# EAGLE library part F-2X09- (library con-headers-jp)
FEMALE HEADER
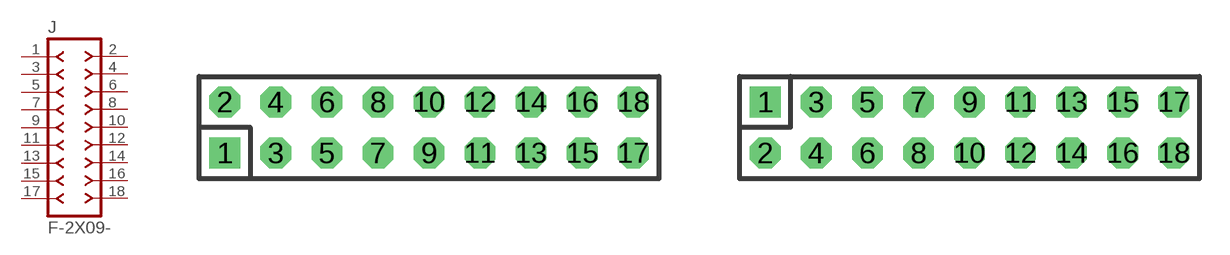
[diagram p38: symbol with the pads of DIL-100-2X09; footprints DIL-100-2X09, DIL-100-2X09_M]

Designator prefix J

## F-2X09-DIL-100  [DIL-100-2X09]
1  1  pas
2  2  pas
3  3  pas
4  4  pas
5  5  pas
6  6  pas
7  7  pas
8  8  pas
9  9  pas
10  10  pas
11  11  pas
12  12  pas
13  13  pas
14  14  pas
15  15  pas
16  16  pas
17  17  pas
18  18  pas

## F-2X09-DIL-100_M  [DIL-100-2X09_M]
Pads as for DIL-100-2X09

## F-2X09-DIL-2MM  [DIL-2MM-2X09]
Pads as for DIL-100-2X09

## F-2X09-DIL-2MM_M  [DIL-2MM-2X09_M]
Pads as for DIL-100-2X09

## F-2X09-71991  [71991-18]
Pads as for DIL-100-2X09

## F-2X09-79107  [79107-18]
Pads as for DIL-100-2X09

## F-2X09-79107_M  [79107-18_M]
Pads as for DIL-100-2X09

## Footprint DIL-100-2X09 (pad centres in mm)
PIN HEADER - 0.1"
drill 1.016 square: 1 -10.16,-1.27
drill 1.016 octagon: 2 -10.16,1.27; 3 -7.62,-1.27; 4 -7.62,1.27; 5 -5.08,-1.27; 6 -5.08,1.27; 7 -2.54,-1.27; 8 -2.54,1.27; 9 0,-1.27; 10 0,1.27; 11 2.54,-1.27; 12 2.54,1.27; 13 5.08,-1.27; 14 5.08,1.27; 15 7.62,-1.27; 16 7.62,1.27; 17 10.16,-1.27; 18 10.16,1.27

## Footprint DIL-100-2X09_M (pad centres in mm)
PIN HEADER - MIRRORED 0.1"
drill 1.016 square: 1 -10.16,1.27
drill 1.016 octagon: 2 -10.16,-1.27; 3 -7.62,1.27; 4 -7.62,-1.27; 5 -5.08,1.27; 6 -5.08,-1.27; 7 -2.54,1.27; 8 -2.54,-1.27; 9 0,1.27; 10 0,-1.27; 11 2.54,1.27; 12 2.54,-1.27; 13 5.08,1.27; 14 5.08,-1.27; 15 7.62,1.27; 16 7.62,-1.27; 17 10.16,1.27; 18 10.16,-1.27

## Footprint DIL-2MM-2X09 (pad centres in mm)
PIN HEADER - 2MM"
drill 0.711 square: 1 -8,-1
drill 0.711 round: 2 -8,1; 3 -6,-1; 4 -6,1; 5 -4,-1; 6 -4,1; 7 -2,-1; 8 -2,1; 9 0,-1; 10 0,1; 11 2,-1; 12 2,1; 13 4,-1; 14 4,1; 15 6,-1; 16 6,1; 17 8,-1; 18 8,1

## Footprint DIL-2MM-2X09_M (pad centres in mm)
PIN HEADER - MIRRORED 2MM
drill 0.711 square: 1 -8,1
drill 0.711 round: 2 -8,-1; 3 -6,1; 4 -6,-1; 5 -4,1; 6 -4,-1; 7 -2,1; 8 -2,-1; 9 0,1; 10 0,-1; 11 2,1; 12 2,-1; 13 4,1; 14 4,-1; 15 6,1; 16 6,-1; 17 8,1; 18 8,-1

## Footprint 71991-18 (pad centres in mm)
FCI - Dual Entry Female Pass Through, 0.1" spacing
drill 0.813 square: 1 -10.16,-3.81
drill 0.813 octagon: 2 -10.16,3.81; 3 -7.62,-3.81; 4 -7.62,3.81; 5 -5.08,-3.81; 6 -5.08,3.81; 7 -2.54,-3.81; 8 -2.54,3.81; 9 0,-3.81; 10 0,3.81; 11 2.54,-3.81; 12 2.54,3.81; 13 5.08,-3.81; 14 5.08,3.81; 15 7.62,-3.81; 16 7.62,3.81; 17 10.16,-3.81; 18 10.16,3.81
hole 1.422 at -10.16,-1.27
hole 1.422 at -10.16,1.27
hole 1.422 at -7.62,1.27
hole 1.422 at -7.62,-1.27
hole 1.422 at -5.08,1.27
hole 1.422 at -5.08,-1.27
hole 1.422 at -2.54,1.27
hole 1.422 at -2.54,-1.27
hole 1.422 at 0,1.27
hole 1.422 at 0,-1.27
hole 1.422 at 2.54,1.27
hole 1.422 at 2.54,-1.27
hole 1.422 at 5.08,1.27
hole 1.422 at 5.08,-1.27
hole 1.422 at 7.62,1.27
hole 1.422 at 7.62,-1.27
hole 1.422 at 10.16,1.27
hole 1.422 at 10.16,-1.27

## Footprint 79107-18 (pad centres in mm)
Molex Board-To-Board Receptacal 2.00mm (.079") Pitch Milli-Grid Header, Vertical, Through-Hole Mates with: 87759, 87762, 87758, 87760
drill 0.711 square: 1 -8,-1
drill 0.711 round: 2 -8,1; 3 -6,-1; 4 -6,1; 5 -4,-1; 6 -4,1; 7 -2,-1; 8 -2,1; 9 0,-1; 10 0,1; 11 2,-1; 12 2,1; 13 4,-1; 14 4,1; 15 6,-1; 16 6,1; 17 8,-1; 18 8,1

## Footprint 79107-18_M (pad centres in mm)
Molex Board-To-Board Receptacal - MIRRORED 2.00mm (.079") Pitch Milli-Grid Header, Vertical, Through-Hole Mates with: 87759, 87762, 87758, 87760
drill 0.711 square: 1 -8,1
drill 0.711 round: 2 -8,-1; 3 -6,1; 4 -6,-1; 5 -4,1; 6 -4,-1; 7 -2,1; 8 -2,-1; 9 0,1; 10 0,-1; 11 2,1; 12 2,-1; 13 4,1; 14 4,-1; 15 6,1; 16 6,-1; 17 8,1; 18 8,-1